# Altium integrated library RMCF1206FT10K0.IntLib: 1 symbol
Pins are listed as number, name and electrical type; pins without a type are passive.

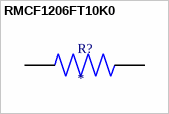
[diagram p0: symbol RMCF1206FT10K0]

## RMCF1206FT10K0
designator R?
10 kOhms Â±1% 0.25W, 1/4W Chip Resistor 1206 (3216 Metric) Automotive AEC-Q200 Thick Film; MP: RMCF1206FT10K0; MF: Stackpole Electronics Inc; Purchase-URL: https://pricing.snapeda.com/search/part/RMCF1206FT10K0/?ref=eda; SnapEDA_Link: https://www.snapeda.com/parts/RMCF1206FT10K0/Stackpole%20Electronics%20Inc/view-part/3955491/?ref=snap; Package: 3216 Stackpole; Check_prices: https://www.snapeda.com/parts/RMCF1206FT10K0/Stackpole%20Electronics%20Inc/view-part/3955491/?ref=eda; Digi-Key_Part_Number: RMCF1206FT10K0CT-ND; Value: *
footprint RESC3216X70N
pins: 1, 2